# EAGLE library part ATTINY13 (library avr)
MICROCONTROLLER 1 Kbytes FLASH 64 bytes EEPROM 64 bytes RAM 4-channel 10 bit ADC
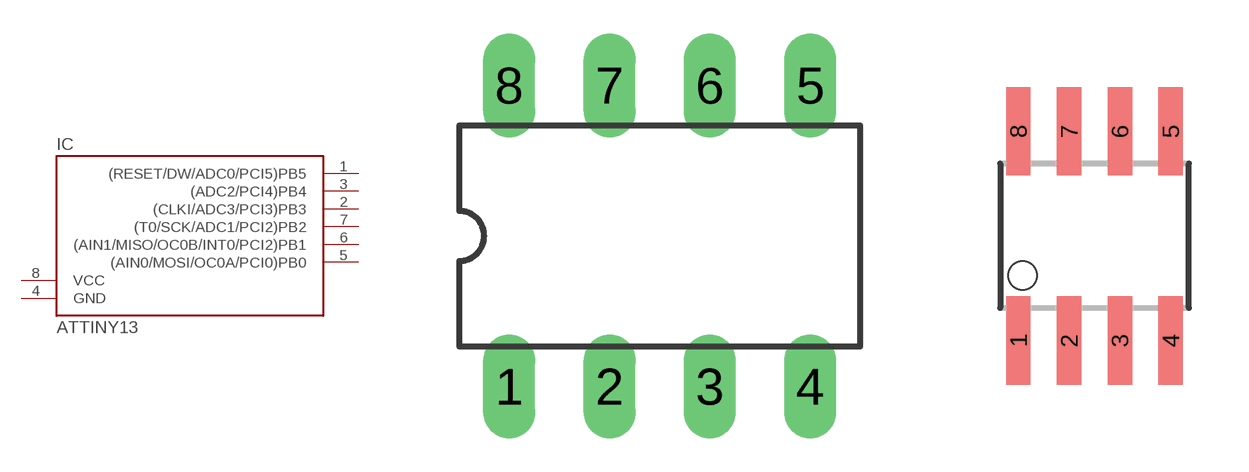
[diagram p59: symbol with the pads of DIL08; footprints DIL08, SO08]

Designator prefix IC

## ATTINY13-20P, ATTINY13V-10P  [DIL08]
1  (RESET/DW/ADC0/PCI5)PB5
2  (CLKI/ADC3/PCI3)PB3
3  (ADC2/PCI4)PB4
4  GND  pwr
5  (AIN0/MOSI/OC0A/PCI0)PB0
6  (AIN1/MISO/OC0B/INT0/PCI2)PB1
7  (T0/SCK/ADC1/PCI2)PB2
8  VCC  pwr

## ATTINY13-20SS, ATTINY13V-10SS  [SO08]
Pads as for DIL08

## ATTINY13-20S, ATTINY13V-10S  [SOIC8]
Pads as for DIL08

## Footprint DIL08 (pad centres in mm)
Dual In Line
drill 0.813 long: 1 -3.81,-3.81; 2 -1.27,-3.81; 3 1.27,-3.81; 4 3.81,-3.81; 5 3.81,3.81; 6 1.27,3.81; 7 -1.27,3.81; 8 -3.81,3.81

## Footprint SO08 (pad centres in mm)
Small Outline Package
smd 0.61 x 2.21: 1 -1.905,-2.616; 2 -0.635,-2.616; 3 0.635,-2.616; 4 1.905,-2.616; 5 1.905,2.616; 6 0.635,2.616; 7 -0.635,2.616; 8 -1.905,2.616

## Footprint SOIC8 (pad centres in mm)
Wide Plastic Gull Wing Small Outline Package
smd 0.5 x 2.2: 1 -1.905,-3.154; 2 -0.645,-3.154; 3 0.625,-3.154; 4 1.895,-3.154; 5 1.905,3.154; 6 0.635,3.154; 7 -0.635,3.154; 8 -1.905,3.154